# Altium schematic symbol library GenerALI.SchLib: 104 symbols (part 1 of 2)
Pins are listed as number, name and electrical type; pins without a type are passive.

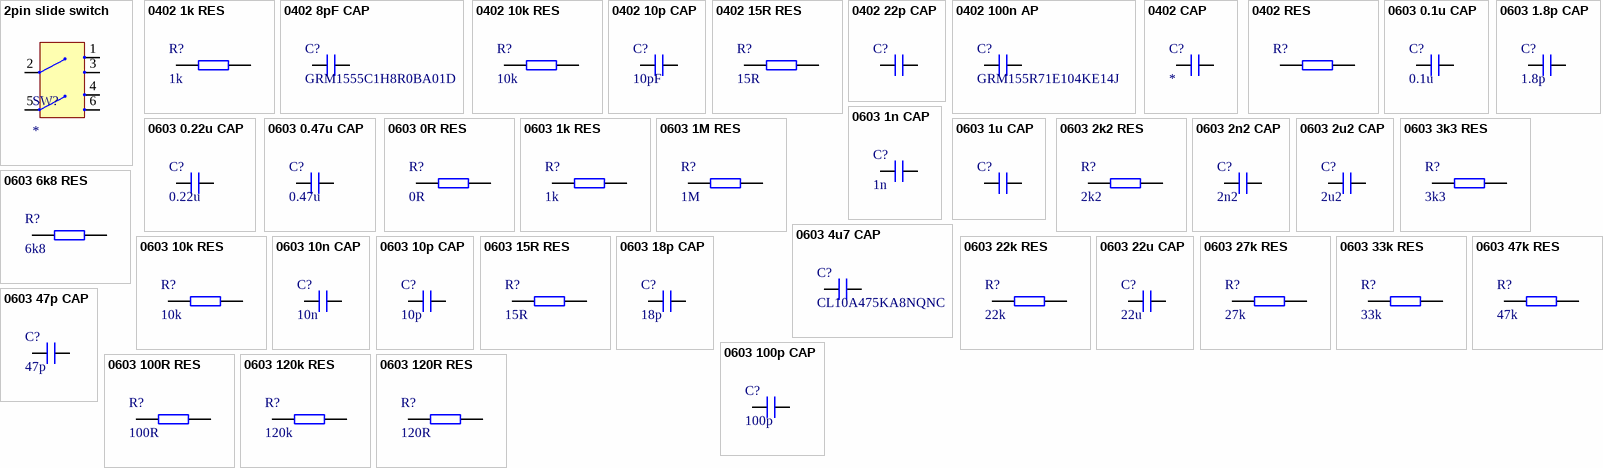
[diagram p0: symbols 2pin slide switch to 0603 120R RES]

## 2pin slide switch
designator SW?
SWITCH SLIDE SPDTX2 100MA 6V; Manufacturer: Nidec Copal; Manufacturer Part Number: CAS-D20TA; Actuator Material: Nylon,Polyamide; Throw Configuration: SPDT,DPDT; Max Voltage Rating (DC): 24V; Electrical Life: 2000Cycles; Switch Function: On-On; Switch Travel: 0.6mm; Operating Force: 510gf; Supplier: Digikey; Supplier Part Number: CASD20JCT-ND; RoHS: Yes; Category: DIP Switches; Stock: 42269; Pricing: 1=2,42, 10=2,356, 25=2,1428, 100=1,8616, 250=1,68712, 500=1,57076 (USD); Mounting Technology: Surface Mount; Contact Material: Copper Alloy; Contact Plating: Gold; Min Operating Temperature: -40°C; Max Operating Temperature: 85°C; Termination: J-Hook; Packaging: Cut Tape; Voltage Rating (DC): 6V; Series: CAS; Orientation: Vertical; RoHS Compliant: Yes; Lead Free: Contains Lead; ComponentLink1URL: https://datasheet.ciiva.com/2865/cas-2865269.pdf?src-supplier=Digikey; ComponentLink1Description: https://datasheet.ciiva.com/2865/cas-2865269.pdf?src-supplier=Digikey; ComponentLink2URL: https://datasheet.ciiva.com/2865/cas-2865270.pdf?src-supplier=Digikey; ComponentLink2Description: https://datasheet.ciiva.com/2865/cas-2865270.pdf?src-supplier=Digikey; ComponentLink3URL: https://datasheet.ciiva.com/2865/cas-2865268.pdf?src-supplier=Digikey; ComponentLink3Description: https://datasheet.ciiva.com/2865/cas-2865268.pdf?src-supplier=Digikey
footprint CAS-D20TA
pins: 1, 2, 3, 4, 5, 6

## 0402 1k RES
designator R?, comment 1k
Fixed Resistor, Metal Glaze/thick Film, 0.06W, 10000ohm, 50V, 1% +/-Tol, 100ppm/Cel, Surface Mount, 0402; Manufacturer: Samsung; Manufacturer Part Number: RC1005F103CS; Power: 60mW; Value: 10kR; Temperature Coefficient: 100ppm/°C; Package Height: 0.35mm; Package Length: 1mm; Package Width: 0.5mm; Case: 0402; Supplier: Digikey; Supplier Part Number: 1276-3431-1-ND; RoHS: Yes; Category: Chip SMD Resistors; Stock: 45634757; Pricing: 1=0,1, 10=0,024, 50=0,0156, 100=0,0132, 500=0,00922, 1000=0,00803, 5000=0,00598 (USD); Mounting Technology: Surface Mount; Pins: 2; Package Shape: Rectangular; Case/Package: 0402; Terminal Finish: Nickel; Min Operating Temperature: -55°C; Max Operating Temperature: 125°C; Tolerance: 1%; JESD-609 Code: e3; Resistor Type: FIXED RESISTOR; Construction: Chip; Package Style: SMTMeter; Packaging: Tape and Reel; Technology: METAL GLAZE/THICK FILM; Working Voltage: 50V; Reach SVHC Compliant: Yes; RoHS Compliant: Yes; ComponentLink1URL: https://datasheet.ciiva.com:443/pdfs/VipMasterIC/IC/SEMS/SEMS-S-A0001326806/SEMS-S-A0001326806-1.pdf?src-supplier=IHS+Markit; ComponentLink1Description: https://datasheet.ciiva.com:443/pdfs/VipMasterIC/IC/SEMS/SEMS-S-A0001326806/SEMS-S-A0001326806-1.pdf?src-supplier=IHS+Markit; ComponentLink2URL: https://datasheet.ciiva.com/15196/getdatasheetpartid-504789-15196214.pdf?src-supplier=Verical; ComponentLink2Description: https://datasheet.ciiva.com/15196/getdatasheetpartid-504789-15196214.pdf?src-supplier=Verical; ComponentLink3URL: https://datasheet.ciiva.com/16481/rcseries-16481007.pdf?src-supplier=Future+Electronics; ComponentLink3Description: https://datasheet.ciiva.com/16481/rcseries-16481007.pdf?src-supplier=Future+Electronics
footprint 0402 RES
pins: 1, 2

## 0402 8pF CAP
designator C?, comment GRM1555C1H8R0BA01D
Ceramic Capacitor, Multilayer, Ceramic, 50V, 1.25% +Tol, 1.25% -Tol, C0G, 30ppm/Cel TC, 0.000008uF, Surface Mount, 0402; Manufacturer: Murata; Value: 8pF; Multilayer: Yes; Case: 0402; Supplier: Digikey; Supplier Part Number: 490-8230-1-ND; Manufacturer Part Number: GRM1555C1H8R0BA01D; RoHS: Yes; Category: Ceramic Capacitors; Stock: 657293; Pricing: 1=0,1, 10=0,055, 50=0,0316, 100=0,0244, 500=0,01838, 1000=0,01445, 2500=0,01313, 5000=0,01208 (USD); Mounting Technology: Surface Mount; Pins: 2; Dielectric Material: Ceramic; Package Shape: Rectangular; Case/Package: 0402; Terminal Finish: Nickel; Min Operating Temperature: -55°C; Max Operating Temperature: 125°C; JESD-609 Code: e3; Capacitor Type: Ceramic; Tolerance  (fill in as +-): 1.25%; Package Style: SMTMeter; Packaging: Tape and Reel; Tolerance (fill in as +-): 1.25%; Rated DC Voltage (URdc): 50V; Temperature Characteristics Code: C0G; Termination: Wraparound; Length: 1mm; Width: 0.5mm; Height: 0.5mm; Reach SVHC Compliant: Yes; RoHS Compliant: Yes; ComponentLink1URL: https://datasheet.ciiva.com:443/pdfs/VipMasterIC/IC/MURE/MURE-S-A0004362469/MURE-S-A0004363144-1.pdf?src-supplier=IHS+Markit; ComponentLink1Description: https://datasheet.ciiva.com:443/pdfs/VipMasterIC/IC/MURE/MURE-S-A0004362469/MURE-S-A0004363144-1.pdf?src-supplier=IHS+Markit; ComponentLink2URL: https://datasheet.ciiva.com/18184/getdatasheetpartid-319021-18184500.pdf?src-supplier=Verical; ComponentLink2Description: https://datasheet.ciiva.com/18184/getdatasheetpartid-319021-18184500.pdf?src-supplier=Verical; ComponentLink3URL: https://datasheet.ciiva.com/6263/grm1555c1h820ga01-01-6263780.pdf?src-supplier=Digikey; ComponentLink3Description: https://datasheet.ciiva.com/6263/grm1555c1h820ga01-01-6263780.pdf?src-supplier=Digikey; ComponentLink4URL: https://datasheet.ciiva.com/5432/product-5432205.pdf?src-supplier=Mouser; ComponentLink4Description: https://datasheet.ciiva.com/5432/product-5432205.pdf?src-supplier=Mouser; ComponentLink5URL: https://datasheet.ciiva.com/11610/product-11610151.pdf?src-supplier=Avnet; ComponentLink5Description: https://datasheet.ciiva.com/11610/product-11610151.pdf?src-supplier=Avnet; ComponentLink6URL: https://datasheet.ciiva.com/16495/c02e-16495287.pdf?src-supplier=Future+Electronics; ComponentLink6Description: https://datasheet.ciiva.com/16495/c02e-16495287.pdf?src-supplier=Future+Electronics
footprint 0402 CAP
pins: 1, 2

## 0402 10k RES
designator R?, comment 10k
Fixed Resistor, Metal Glaze/thick Film, 0.06W, 10000ohm, 50V, 1% +/-Tol, 100ppm/Cel, Surface Mount, 0402; Manufacturer: Samsung; Manufacturer Part Number: RC1005F103CS; Power: 60mW; Value: 10kR; Temperature Coefficient: 100ppm/°C; Package Height: 0.35mm; Package Length: 1mm; Package Width: 0.5mm; Case: 0402; Supplier: Digikey; Supplier Part Number: 1276-3431-1-ND; RoHS: Yes; Category: Chip SMD Resistors; Stock: 45634757; Pricing: 1=0,1, 10=0,024, 50=0,0156, 100=0,0132, 500=0,00922, 1000=0,00803, 5000=0,00598 (USD); Mounting Technology: Surface Mount; Pins: 2; Package Shape: Rectangular; Case/Package: 0402; Terminal Finish: Nickel; Min Operating Temperature: -55°C; Max Operating Temperature: 125°C; Tolerance: 1%; JESD-609 Code: e3; Resistor Type: FIXED RESISTOR; Construction: Chip; Package Style: SMTMeter; Packaging: Tape and Reel; Technology: METAL GLAZE/THICK FILM; Working Voltage: 50V; Reach SVHC Compliant: Yes; RoHS Compliant: Yes; ComponentLink1URL: https://datasheet.ciiva.com:443/pdfs/VipMasterIC/IC/SEMS/SEMS-S-A0001326806/SEMS-S-A0001326806-1.pdf?src-supplier=IHS+Markit; ComponentLink1Description: https://datasheet.ciiva.com:443/pdfs/VipMasterIC/IC/SEMS/SEMS-S-A0001326806/SEMS-S-A0001326806-1.pdf?src-supplier=IHS+Markit; ComponentLink2URL: https://datasheet.ciiva.com/15196/getdatasheetpartid-504789-15196214.pdf?src-supplier=Verical; ComponentLink2Description: https://datasheet.ciiva.com/15196/getdatasheetpartid-504789-15196214.pdf?src-supplier=Verical; ComponentLink3URL: https://datasheet.ciiva.com/16481/rcseries-16481007.pdf?src-supplier=Future+Electronics; ComponentLink3Description: https://datasheet.ciiva.com/16481/rcseries-16481007.pdf?src-supplier=Future+Electronics
footprint 0402 RES
pins: 1, 2

## 0402 10p CAP
designator C?, comment 10pF
Ceramic Capacitor, Multilayer, Ceramic, 25V, 2% +Tol, 2% -Tol, C0G, 30ppm/Cel TC, 0.00001uF, Surface Mount, 01005; Manufacturer: Murata; Manufacturer Part Number: GRM0225C1E100GA03L; Multilayer: Yes; Case: 0402; Supplier: Digikey; Supplier Part Number: 490-13464-2-ND; RoHS: Yes; Category: Ceramic Capacitors; Stock: 400000; Pricing: 40000=0,00724, 80000=0,00648, 120000=0,00524, 200000=0,00507, 280000=0,00476 (USD); Mounting Technology: Surface Mount; Pins: 2; Dielectric Material: Ceramic; Package Shape: Rectangular; Min Operating Temperature: -55°C; Max Operating Temperature: 125°C; Value: 10pF; Capacitor Type: Ceramic; Tolerance  (fill in as +-): 2%; Packaging: Tape and Reel; Tolerance (fill in as +-): 2%; Rated DC Voltage (URdc): 25V; Temperature Characteristics Code: C0G; Termination: Wraparound; Reach SVHC Compliant: Yes; RoHS Compliant: Yes; ComponentLink1URL: https://datasheet.ciiva.com:443/pdfs/VipMasterIC/IC/MURE/MURE-S-A0004430058/MURE-S-A0004435504-1.pdf?src-supplier=IHS+Markit; ComponentLink1Description: https://datasheet.ciiva.com:443/pdfs/VipMasterIC/IC/MURE/MURE-S-A0004430058/MURE-S-A0004435504-1.pdf?src-supplier=IHS+Markit; ComponentLink2URL: https://search.murata.co.jp/Ceramy/image/img/A01X/G101/ENG/GRM0225C1E100GA03-01.pdf?src-supplier=Digikey; ComponentLink2Description: https://search.murata.co.jp/Ceramy/image/img/A01X/G101/ENG/GRM0225C1E100GA03-01.pdf?src-supplier=Digikey; ComponentLink3URL: http://search.murata.co.jp/Ceramy/image/img/A01X/G101/ENG/GRM0225C1E100GA03-01.pdf?src-supplier=Digikey; ComponentLink3Description: http://search.murata.co.jp/Ceramy/image/img/A01X/G101/ENG/GRM0225C1E100GA03-01.pdf?src-supplier=Digikey
footprint 0402 CAP
pins: 1, 2

## 0402 15R RES
designator R?, comment 15R
Fixed Resistor, Metal Glaze/thick Film, 0.0625W, 15ohm, 50V, 1% +/-Tol, 100ppm/Cel, Surface Mount, 0402; Manufacturer: Yageo; Manufacturer Part Number: RC0402FR-0715RL; Additional Feature: LASER TRIMMABLE; Power: 62.5mW; Rated Temperature: 70°C; Temperature Coefficient: 100ppm/°C; Package Height: 0.35mm; Package Length: 1mm; Package Width: 0.5mm; Case: 0402; Supplier: Digikey; Supplier Part Number: 311-15LRCT-ND; RoHS: Yes; Category: Chip SMD Resistors; Stock: 374901; Pricing: 1=0,1, 10=0,015, 50=0,0088, 100=0,0073, 500=0,00488, 1000=0,00417, 5000=0,00297 (USD); Mounting Technology: Surface Mount; Pins: 2; Package Shape: Rectangular; Case/Package: 0402; Terminal Finish: Nickel; Min Operating Temperature: -55°C; Max Operating Temperature: 155°C; Tolerance: 1%; JESD-609 Code: e3; Resistor Type: FIXED RESISTOR; Construction: Chip; Package Style: SMTMeter; Packaging: Tape and Reel; Value: 15R; Technology: METAL GLAZE/THICK FILM; Termination: Wraparound; Working Voltage: 50V; Reach SVHC Compliant: Yes; RoHS Compliant: Yes; ComponentLink1URL: https://datasheet.ciiva.com:443/pdfs/VipMasterIC/IC/YAGO/YAGO-S-A0008145938/YAGO-S-A0008145938-1.pdf?src-supplier=IHS+Markit; ComponentLink1Description: https://datasheet.ciiva.com:443/pdfs/VipMasterIC/IC/YAGO/YAGO-S-A0008145938/YAGO-S-A0008145938-1.pdf?src-supplier=IHS+Markit; ComponentLink2URL: https://datasheet.ciiva.com/2518/pyu-r-int-thick-7-2518950.pdf?src-supplier=Digikey; ComponentLink2Description: https://datasheet.ciiva.com/2518/pyu-r-int-thick-7-2518950.pdf?src-supplier=Digikey; ComponentLink3URL: https://datasheet.ciiva.com/2518/pyu-r-int-thick-7-2518951.pdf?src-supplier=Digikey; ComponentLink3Description: https://datasheet.ciiva.com/2518/pyu-r-int-thick-7-2518951.pdf?src-supplier=Digikey; ComponentLink4URL: https://datasheet.ciiva.com/2518/pyu-r-int-thick-7-2518949.pdf?src-supplier=Digikey; ComponentLink4Description: https://datasheet.ciiva.com/2518/pyu-r-int-thick-7-2518949.pdf?src-supplier=Digikey; ComponentLink5URL: https://datasheet.ciiva.com/12558/pyu-rc0402-51-rohs-l-6-r-8721-12558367.pdf?src-supplier=Mouser; ComponentLink5Description: https://datasheet.ciiva.com/12558/pyu-rc0402-51-rohs-l-6-r-8721-12558367.pdf?src-supplier=Mouser; ComponentLink6URL: https://datasheet.ciiva.com/16740/pyu-rc0402-51-rohs-l-6-r-16740598.pdf?src-supplier=Future+Electronics; ComponentLink6Description: https://datasheet.ciiva.com/16740/pyu-rc0402-51-rohs-l-6-r-16740598.pdf?src-supplier=Future+Electronics
footprint 0402 RES
pins: 1, 2

## 0402 22p CAP
designator C?, comment GRM1555C1H220JA01D  (value not drawn)
Ceramic Capacitor, Multilayer, Ceramic, 50V, 5% +Tol, 5% -Tol, C0G, 30ppm/Cel TC, 0.000022uF, Surface Mount, 0402; Manufacturer: Murata; Value: 22pF; Multilayer: Yes; Case: 0402; Supplier: Digikey; Supplier Part Number: 490-5868-1-ND; Manufacturer Part Number: GRM1555C1H220JA01D; RoHS: Yes; Category: Ceramic Capacitors; Stock: 1670141; Pricing: 1=0,1, 10=0,029, 50=0,0166, 100=0,0129, 500=0,00974, 1000=0,00765, 2500=0,00695, 5000=0,0064 (USD); Mounting Technology: Surface Mount; Pins: 2; Package Shape: Rectangular; Case/Package: 0402; Terminal Finish: Nickel; Dielectric Material: Ceramic; Min Operating Temperature: -55°C; Max Operating Temperature: 125°C; JESD-609 Code: e3; Package Style: SMTMeter; Packaging: Tape and Reel; Termination: Wraparound; Capacitor Type: Ceramic; Tolerance  (fill in as +-): 5%; Tolerance (fill in as +-): 5%; Rated DC Voltage (URdc): 50V; Temperature Characteristics Code: C0G; Length: 1mm; Width: 0.5mm; Height: 0.5mm; Reach SVHC Compliant: Yes; RoHS Compliant: Yes; ComponentLink1URL: https://datasheet.ciiva.com:443/pdfs/VipMasterIC/IC/MURE/MURE-S-A0008911154/MURE-S-A0008911207-1.pdf?src-supplier=IHS+Markit; ComponentLink1Description: https://datasheet.ciiva.com:443/pdfs/VipMasterIC/IC/MURE/MURE-S-A0008911154/MURE-S-A0008911207-1.pdf?src-supplier=IHS+Markit; ComponentLink2URL: https://datasheet.ciiva.com/6277/product-6277809.pdf?src-supplier=Digikey; ComponentLink2Description: https://datasheet.ciiva.com/6277/product-6277809.pdf?src-supplier=Digikey; ComponentLink3URL: https://datasheet.ciiva.com/29200/453714-da-01-en-vs-kondensator-0402-29200051.pdf?src-supplier=Conrad; ComponentLink3Description: https://datasheet.ciiva.com/29200/453714-da-01-en-vs-kondensator-0402-29200051.pdf?src-supplier=Conrad; ComponentLink4URL: https://datasheet.ciiva.com/7828/1666664-7828846.pdf?src-supplier=Element14; ComponentLink4Description: https://datasheet.ciiva.com/7828/1666664-7828846.pdf?src-supplier=Element14
footprint 0402 CAP
pins: 1, 2

## 0402 100n AP
designator C?, comment GRM155R71E104KE14J
Ceramic Capacitor, Multilayer, Ceramic, 25V, 10% +Tol, 10% -Tol, X7R, 15% TC, 0.1uF, Surface Mount, 0402; Manufacturer: Murata; Value: 100nF; Multilayer: Yes; Case: 0402; Supplier: Digikey; Supplier Part Number: 490-14603-1-ND; Manufacturer Part Number: GRM155R71E104KE14J; RoHS: Yes; Category: Ceramic Capacitors; Stock: 3911559; Pricing: 1=0,1, 10=0,024, 50=0,0136, 100=0,0105, 500=0,00794, 1000=0,00623, 2500=0,00566, 5000=0,00521 (USD); Mounting Technology: Surface Mount; Pins: 2; Dielectric Material: Ceramic; Package Shape: Rectangular; Case/Package: 0402; Terminal Finish: Nickel; Min Operating Temperature: -55°C; Max Operating Temperature: 125°C; JESD-609 Code: e3; Capacitor Type: Ceramic; Tolerance  (fill in as +-): 10%; Package Style: SMTMeter; Packaging: Tape and Reel; Tolerance (fill in as +-): 10%; Rated DC Voltage (URdc): 25V; Temperature Characteristics Code: X7R; Termination: Wraparound; Length: 1mm; Width: 0.5mm; Height: 0.5mm; Reach SVHC Compliant: Yes; RoHS Compliant: Yes; ComponentLink1URL: https://datasheet.ciiva.com:443/pdfs/VipMasterIC/IC/MURE/MURE-S-A0004362469/MURE-S-A0004364872-1.pdf?src-supplier=IHS+Markit; ComponentLink1Description: https://datasheet.ciiva.com:443/pdfs/VipMasterIC/IC/MURE/MURE-S-A0004362469/MURE-S-A0004364872-1.pdf?src-supplier=IHS+Markit; ComponentLink2URL: http://www.mouser.com/ds/2/281/c02e-2905.pdf?src-supplier=Mouser; ComponentLink2Description: http://www.mouser.com/ds/2/281/c02e-2905.pdf?src-supplier=Mouser; ComponentLink3URL: https://datasheet.octopart.com/GRM155R71E104KE14J-Murata-datasheet-155345056.pdf?src-supplier=Element14; ComponentLink3Description: https://datasheet.octopart.com/GRM155R71E104KE14J-Murata-datasheet-155345056.pdf?src-supplier=Element14; ComponentLink4URL: http://search.murata.co.jp/Ceramy/image/img/A01X/G101/ENG/GRM155R71E104KE14-01.pdf?src-supplier=Digikey; ComponentLink4Description: http://search.murata.co.jp/Ceramy/image/img/A01X/G101/ENG/GRM155R71E104KE14-01.pdf?src-supplier=Digikey; ComponentLink5URL: https://datasheet.octopart.com/GRM155R71E104KE14J-Murata-datasheet-165579666.pdf?src-supplier=TME; ComponentLink5Description: https://datasheet.octopart.com/GRM155R71E104KE14J-Murata-datasheet-165579666.pdf?src-supplier=TME
footprint 0402 CAP
pins: 1, 2

## 0402 CAP
designator C?
Case: 0402
footprint 0402 CAP
pins: 1, 2

## 0402 RES
designator R?
Case: 0402
footprint 0402 RES
pins: 1, 2

## 0603 0.1u CAP
designator C?, comment 0.1u
Case: 0603
footprint 0603 CAP
pins: 1, 2

## 0603 0.22u CAP
designator C?, comment 0.22u
Case: 0603
footprint 0603 CAP
pins: 1, 2

## 0603 0.47u CAP
designator C?, comment 0.47u
Case: 0603
footprint 0603 CAP
pins: 1, 2

## 0603 0R RES
designator R?, comment 0R
Case: 0603
footprint 0603 RES
pins: 1, 2

## 0603 1.8p CAP
designator C?, comment 1.8p
Case: 0603
footprint 0603 CAP
pins: 1, 2

## 0603 1k RES
designator R?, comment 1k
Case: 0603
footprint 0603 RES
pins: 1, 2

## 0603 1M RES
designator R?, comment 1M
Case: 0603
footprint 0603 RES
pins: 1, 2

## 0603 1n CAP
designator C?, comment 1n
Case: 0603
footprint 0603 CAP
pins: 1, 2

## 0603 1u CAP
designator C?, comment GCM188R71E105KA64D  (value not drawn)
Ceramic Capacitor, Multilayer, Ceramic, 25V, 10% +Tol, 10% -Tol, X7R, 15% TC, 1uF, Surface Mount, 0603; Manufacturer: Murata; Multilayer: Yes; Reference Standard: AEC-Q200; Case: 0603; Supplier: Digikey; Supplier Part Number: 490-10673-6-ND; Manufacturer Part Number: GCM188R71E105KA64D; RoHS: Yes; Category: Ceramic Capacitors; Stock: 2612025; Pricing: 1=0,24, 10=0,158, 50=0,1, 100=0,08, 500=0,05776, 1000=0,0511 (USD); Mounting Technology: Surface Mount; Pins: 2; Dielectric Material: Ceramic; Package Shape: Rectangular; Case/Package: 0603; Terminal Finish: Nickel; Min Operating Temperature: -55°C; Max Operating Temperature: 125°C; JESD-609 Code: e3; Value: 1uF; Capacitor Type: Ceramic; Tolerance  (fill in as +-): 10%; Package Style: SMTMeter; Packaging: Tape and Reel; Tolerance (fill in as +-): 10%; Rated DC Voltage (URdc): 25V; Temperature Characteristics Code: X7R; Termination: Wraparound; Length: 1.6mm; Width: 0.8mm; Height: 0.9mm; Reach SVHC Compliant: Yes; RoHS Compliant: Yes; ComponentLink1URL: https://datasheet.ciiva.com:443/pdfs/VipMasterIC/IC/MURE/MURE-S-A0004362469/MURE-S-A0004362812-1.pdf?src-supplier=IHS+Markit; ComponentLink1Description: https://datasheet.ciiva.com:443/pdfs/VipMasterIC/IC/MURE/MURE-S-A0004362469/MURE-S-A0004362812-1.pdf?src-supplier=IHS+Markit; ComponentLink2URL: https://datasheet.ciiva.com/11616/product-11616499.pdf?src-supplier=Avnet; ComponentLink2Description: https://datasheet.ciiva.com/11616/product-11616499.pdf?src-supplier=Avnet; ComponentLink3URL: https://datasheet.ciiva.com/26843/getdatasheetpartid-562446-26843671.pdf?src-supplier=Verical; ComponentLink3Description: https://datasheet.ciiva.com/26843/getdatasheetpartid-562446-26843671.pdf?src-supplier=Verical
footprint 0603 CAP
pins: 1, 2

## 0603 2k2 RES
designator R?, comment 2k2
Case: 0603
footprint 0603 RES
pins: 1, 2

## 0603 2n2 CAP
designator C?, comment 2n2
Case: 0603
footprint 0603 CAP
pins: 1, 2

## 0603 2u2 CAP
designator C?, comment 2u2
Case: 0603
footprint 0603 CAP
pins: 1, 2

## 0603 3k3 RES
designator R?, comment 3k3
Case: 0603
footprint 0603 RES
pins: 1, 2

## 0603 4u7 CAP
designator C?, comment CL10A475KA8NQNC
Ceramic Capacitor, Multilayer, Ceramic, 25V, 10% +Tol, 10% -Tol, X5R, 15% TC, 4.7uF, Surface Mount, 0603; Manufacturer: Samsung; Multilayer: Yes; Case: 0603; Supplier: Digikey; Supplier Part Number: 1276-1900-1-ND; Manufacturer Part Number: CL10A475KA8NQNC; RoHS: Yes; Category: Ceramic Capacitors; Stock: 1806164; Pricing: 1=0,35, 10=0,226, 50=0,1584, 100=0,1279, 500=0,09502, 1000=0,08314 (USD); Mounting Technology: Surface Mount; Pins: 2; Package Shape: Rectangular; Terminal Finish: Nickel; Dielectric Material: Ceramic; Case/Package: 0603; Min Operating Temperature: -55°C; Max Operating Temperature: 85°C; JESD-609 Code: e3; Package Style: SMTMeter; Value: 4.7uF; Capacitor Type: Ceramic; Tolerance  (fill in as +-): 10%; Packaging: Tape and Reel; Tolerance (fill in as +-): 10%; Rated DC Voltage (URdc): 25V; Temperature Characteristics Code: X5R; Termination: Wraparound; Length: 1.6mm; Width: 0.8mm; Height: 0.95mm; Reach SVHC Compliant: Yes; RoHS Compliant: Yes; ComponentLink1URL: https://datasheet.ciiva.com:443/pdfs/VipMasterIC/IC/SEMS/SEMS-S-A0008384515/SEMS-S-A0008873295-1.pdf?src-supplier=IHS+Markit; ComponentLink1Description: https://datasheet.ciiva.com:443/pdfs/VipMasterIC/IC/SEMS/SEMS-S-A0008384515/SEMS-S-A0008873295-1.pdf?src-supplier=IHS+Markit; ComponentLink2URL: https://datasheet.ciiva.com/25787/cl10a475ka8nqnc-25787017.pdf?src-supplier=Digikey; ComponentLink2Description: https://datasheet.ciiva.com/25787/cl10a475ka8nqnc-25787017.pdf?src-supplier=Digikey
footprint 0603 CAP
pins: 1, 2

## 0603 6k8 RES
designator R?, comment 6k8
Case: 0603
footprint 0603 RES
pins: 1, 2

## 0603 10k RES
designator R?, comment 10k
Case: 0603
footprint 0603 RES
pins: 1, 2

## 0603 10n CAP
designator C?, comment 10n
Case: 0603
footprint 0603 CAP
pins: 1, 2

## 0603 10p CAP
designator C?, comment 10p
Case: 0603
footprint 0603 CAP
pins: 1, 2

## 0603 15R RES
designator R?, comment 15R
Case: 0603
footprint 0603 RES
pins: 1, 2

## 0603 18p CAP
designator C?, comment 18p
Case: 0603
footprint 0603 CAP
pins: 1, 2

## 0603 22k RES
designator R?, comment 22k
Case: 0603
footprint 0603 RES
pins: 1, 2

## 0603 22u CAP
designator C?, comment 22u
Case: 0603
footprint 0603 CAP
pins: 1, 2

## 0603 27k RES
designator R?, comment 27k
Case: 0603
footprint 0603 RES
pins: 1, 2

## 0603 33k RES
designator R?, comment 33k
Case: 0603
footprint 0603 RES
pins: 1, 2

## 0603 47k RES
designator R?, comment 47k
Case: 0603
footprint 0603 RES
pins: 1, 2

## 0603 47p CAP
designator C?, comment 47p
Case: 0603
footprint 0603 CAP
pins: 1, 2

## 0603 100p CAP
designator C?, comment 100p
Case: 0603
footprint 0603 CAP
pins: 1, 2

## 0603 100R RES
designator R?, comment 100R
Case: 0603
footprint 0603 RES
pins: 1, 2

## 0603 120k RES
designator R?, comment 120k
Case: 0603
footprint 0603 RES
pins: 1, 2

## 0603 120R RES
designator R?, comment 120R
Case: 0603
footprint 0603 RES
pins: 1, 2

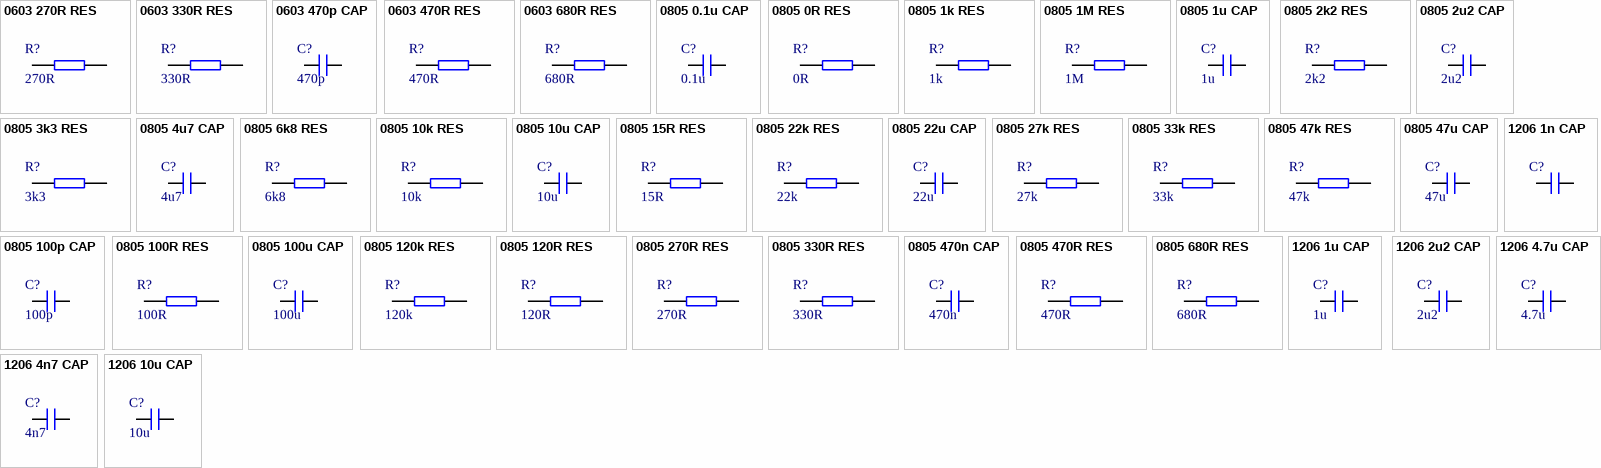
[diagram p1: symbols 0603 270R RES to 1206 10u CAP]

## 0603 270R RES
designator R?, comment 270R
Case: 0603
footprint 0603 RES
pins: 1, 2

## 0603 330R RES
designator R?, comment 330R
Case: 0603
footprint 0603 RES
pins: 1, 2

## 0603 470p CAP
designator C?, comment 470p
Case: 0603
footprint 0603 CAP
pins: 1, 2

## 0603 470R RES
designator R?, comment 470R
Case: 0603
footprint 0603 RES
pins: 1, 2

## 0603 680R RES
designator R?, comment 680R
Case: 0603
footprint 0603 RES
pins: 1, 2

## 0805 0.1u CAP
designator C?, comment 0.1u
Case: 0805
footprint 0805 CAP
pins: 1, 2

## 0805 0R RES
designator R?, comment 0R
Case: 0805
footprint 0805 RES
pins: 1, 2

## 0805 1k RES
designator R?, comment 1k
Case: 0805
footprint 0805 RES
pins: 1, 2

## 0805 1M RES
designator R?, comment 1M
Case: 0805
footprint 0805 RES
pins: 1, 2

## 0805 1u CAP
designator C?, comment 1u
Case: 0805
footprint 0805 CAP
pins: 1, 2

## 0805 2k2 RES
designator R?, comment 2k2
Case: 0805
footprint 0805 RES
pins: 1, 2

## 0805 2u2 CAP
designator C?, comment 2u2
Case: 0805
footprint 0805 CAP
pins: 1, 2

## 0805 3k3 RES
designator R?, comment 3k3
Case: 0805
footprint 0805 RES
pins: 1, 2

## 0805 4u7 CAP
designator C?, comment 4u7
Case: 0805
footprint 0805 CAP
pins: 1, 2

## 0805 6k8 RES
designator R?, comment 6k8
Case: 0805
footprint 0805 RES
pins: 1, 2

## 0805 10k RES
designator R?, comment 10k
Case: 0805
footprint 0805 RES
pins: 1, 2

## 0805 10u CAP
designator C?, comment 10u
Case: 0805
footprint 0805 CAP
pins: 1, 2

## 0805 15R RES
designator R?, comment 15R
Case: 0805
footprint 0805 RES
pins: 1, 2

## 0805 22k RES
designator R?, comment 22k
Case: 0805
footprint 0805 RES
pins: 1, 2

## 0805 22u CAP
designator C?, comment 22u
Case: 0805
footprint 0805 CAP
pins: 1, 2

## 0805 27k RES
designator R?, comment 27k
Case: 0805
footprint 0805 RES
pins: 1, 2

## 0805 33k RES
designator R?, comment 33k
Case: 0805
footprint 0805 RES
pins: 1, 2

## 0805 47k RES
designator R?, comment 47k
Case: 0805
footprint 0805 RES
pins: 1, 2

## 0805 47u CAP
designator C?, comment 47u
Case: 0805
footprint 0805 CAP
pins: 1, 2

## 0805 100p CAP
designator C?, comment 100p
Case: 0805
footprint 0805 CAP
pins: 1, 2

## 0805 100R RES
designator R?, comment 100R
Case: 0805
footprint 0805 RES
pins: 1, 2

## 0805 100u CAP
designator C?, comment 100u
Case: 0805
footprint 0805 CAP
pins: 1, 2

## 0805 120k RES
designator R?, comment 120k
Case: 0805
footprint 0805 RES
pins: 1, 2

## 0805 120R RES
designator R?, comment 120R
Case: 0805
footprint 0805 RES
pins: 1, 2

## 0805 270R RES
designator R?, comment 270R
Case: 0805
footprint 0805 RES
pins: 1, 2

## 0805 330R RES
designator R?, comment 330R
Case: 0805
footprint 0805 RES
pins: 1, 2

## 0805 470n CAP
designator C?, comment 470n
Case: 0805
footprint 0805 CAP
pins: 1, 2

## 0805 470R RES
designator R?, comment 470R
Case: 0805
footprint 0805 RES
pins: 1, 2

## 0805 680R RES
designator R?, comment 680R
Case: 0805
footprint 0805 RES
pins: 1, 2

## 1206 1n CAP
designator C?
Case: 1206
footprint 1206 CAP
pins: 1, 2

## 1206 1u CAP
designator C?, comment 1u
Case: 1206
footprint 1206 CAP
pins: 1, 2

## 1206 2u2 CAP
designator C?, comment 2u2
Case: 1206
footprint 1206 CAP
pins: 1, 2

## 1206 4.7u CAP
designator C?, comment 4.7u
Case: 1206
footprint 1206 CAP
pins: 1, 2

## 1206 4n7 CAP
designator C?, comment 4n7
Case: 1206
footprint 1206 CAP
pins: 1, 2

## 1206 10u CAP
designator C?, comment 10u
Case: 1206
footprint 1206 CAP
pins: 1, 2

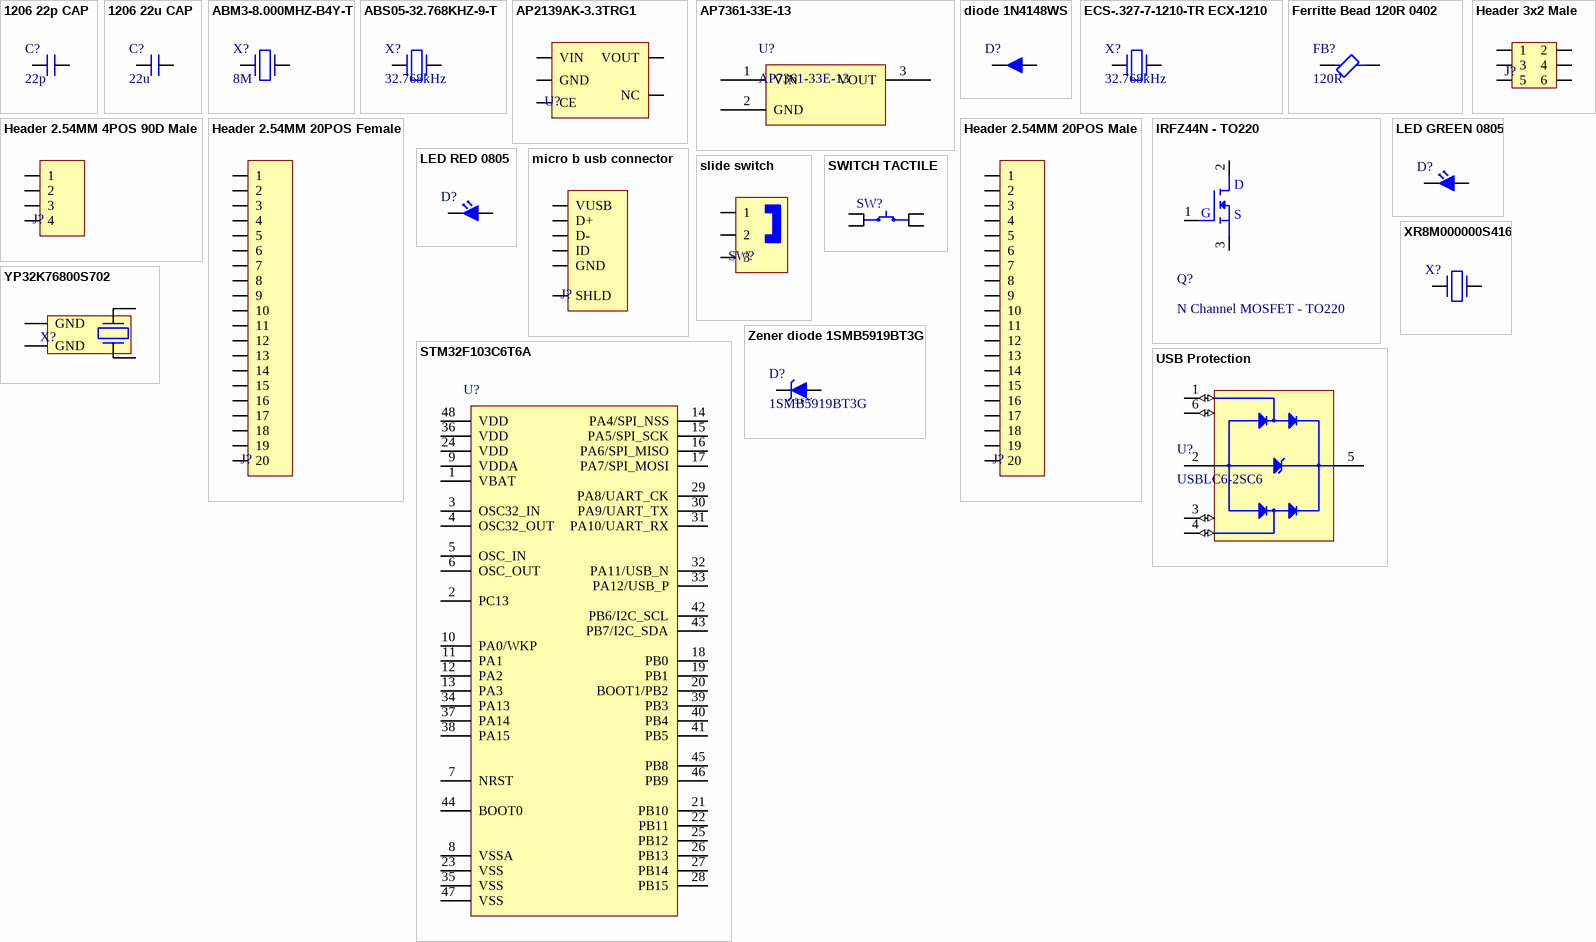
[diagram p2: symbols 1206 22p CAP to Zener diode 1SMB5919BT3G]

## 1206 22p CAP
designator C?, comment 22p
Case: 1206
footprint 1206 CAP
pins: 1, 2

## 1206 22u CAP
designator C?, comment 22u
Case: 1206
footprint 1206 CAP
pins: 1, 2

## ABM3-8.000MHZ-B4Y-T
designator X?, comment 8M
Parallel - Fundamental Quartz Crystal, 8MHz Nom 18pF; Manufacturer: Abracon; Manufacturer Part Number: ABM3-8.000MHZ-B4Y-T; Manufacturer Series: ABM3; Aging: 5 PPM/FIRST YEAR; Drive Level: 10uW; Frequency Stability: 0.003%; Frequency Tolerance: 30ppm; Operating Frequency-Nom: 80; ESR: 140R; Supplier: Digikey; Supplier Part Number: 535-13567-1-ND; RoHS: Yes; Category: Crystals; Stock: 1076661; Pricing: 1=0,59, 10=0,495, 50=0,4456, 100=0,3962, 500=0,37636 (USD); Mounting Technology: Surface Mount; Terminal Finish: Silver; Min Operating Temperature: -20°C; Max Operating Temperature: 70°C; JESD-609 Code: e4; Crystal/Resonator Type: PARALLEL - FUNDAMENTAL; Load Capacitance: 18pF; Reach SVHC Compliant: Yes; RoHS Compliant: Yes; ComponentLink1URL: https://datasheet.ciiva.com:443/pdfs/VipMasterIC/IC/ABRC/ABRCS03152/ABRCS03152-1.pdf?src-supplier=IHS+Markit; ComponentLink1Description: https://datasheet.ciiva.com:443/pdfs/VipMasterIC/IC/ABRC/ABRCS03152/ABRCS03152-1.pdf?src-supplier=IHS+Markit; ComponentLink2URL: https://abracon.com/Resonators/abm3.pdf?src-supplier=Digikey; ComponentLink2Description: https://abracon.com/Resonators/abm3.pdf?src-supplier=Digikey; ComponentLink3URL: http://www.abracon.com/Resonators/abm3.pdf?src-supplier=Digikey; ComponentLink3Description: http://www.abracon.com/Resonators/abm3.pdf?src-supplier=Digikey; ComponentLink4URL: https://datasheet.octopart.com/ABM3-8.000MHZ-B4Y-T-Abracon-datasheet-154724144.pdf?src-supplier=Sager+Electronics; ComponentLink4Description: https://datasheet.octopart.com/ABM3-8.000MHZ-B4Y-T-Abracon-datasheet-154724144.pdf?src-supplier=Sager+Electronics
footprint ABM3-8.000MHZ (2-SMD, No Lead for crystals)
pins: 1, 2

## ABS05-32.768KHZ-9-T
designator X?, comment 32.768kHz
Parallel - Fundamental Quartz Crystal, 0.032768MHz Nom; Manufacturer: Abracon; Manufacturer Part Number: ABS05-32.768KHZ-9-T; Manufacturer Series: ABS05; Additional Feature: TAPE AND REEL; Drive Level: 0.5uW; Frequency Stability: 0.0072%; Frequency Tolerance: 20ppm; Load Capacitance: 9pF; ESR: 90kR; Supplier: Digikey; Supplier Part Number: 535-ABS05-32.768KHZ-9-TCT-ND; RoHS: Yes; Category: Crystals; Stock: 674990; Pricing: 1=0,83, 10=0,733, 50=0,685, 100=0,6054, 500=0,57356, 1000=0,47797 (USD); Mounting Technology: Surface Mount; Min Operating Temperature: -40°C; Max Operating Temperature: 85°C; Crystal/Resonator Type: PARALLEL - FUNDAMENTAL; Operating Frequency-Nom: 0.032768; Reach SVHC Compliant: Yes; RoHS Compliant: Yes; ComponentLink1URL: https://datasheet.ciiva.com:443/pdfs/VipMasterIC/IC/ABRC/ABRC-S-A0001211237/ABRC-S-A0001211237-1.pdf?src-supplier=IHS+Markit; ComponentLink1Description: https://datasheet.ciiva.com:443/pdfs/VipMasterIC/IC/ABRC/ABRC-S-A0001211237/ABRC-S-A0001211237-1.pdf?src-supplier=IHS+Markit; ComponentLink2URL: https://datasheet.ciiva.com/12387/abs05-25797-12387306.pdf?src-supplier=Mouser; ComponentLink2Description: https://datasheet.ciiva.com/12387/abs05-25797-12387306.pdf?src-supplier=Mouser; ComponentLink3URL: https://datasheet.ciiva.com/6728/abs05-6728952.pdf?src-supplier=Digikey; ComponentLink3Description: https://datasheet.ciiva.com/6728/abs05-6728952.pdf?src-supplier=Digikey; ComponentLink4URL: https://datasheet.ciiva.com/6728/abs05-6728951.pdf?src-supplier=Digikey; ComponentLink4Description: https://datasheet.ciiva.com/6728/abs05-6728951.pdf?src-supplier=Digikey; ComponentLink5URL: https://datasheet.ciiva.com/48668/abs05-48668569.pdf?src-supplier=Avnet; ComponentLink5Description: https://datasheet.ciiva.com/48668/abs05-48668569.pdf?src-supplier=Avnet; ComponentLink6URL: https://datasheet.ciiva.com/6728/abs05-6728953.pdf?src-supplier=Digikey; ComponentLink6Description: https://datasheet.ciiva.com/6728/abs05-6728953.pdf?src-supplier=Digikey; ComponentLink7URL: https://datasheet.ciiva.com/16411/abs05-16411147.pdf?src-supplier=Future+Electronics; ComponentLink7Description: https://datasheet.ciiva.com/16411/abs05-16411147.pdf?src-supplier=Future+Electronics
footprint ABS05
pins: 1, 2

## AP2139AK-3.3TRG1
designator U?
Fixed Positive LDO Regulator, 3.3V, 0.3V Dropout, CMOS, PDSO5; Manufacturer: Diodes; Manufacturer Part Number: AP2139AK-3.3TRG1; Package Body Material: Plastic; Dropout Voltage1-Max: 300mV; Max Supply Voltage: 6.6V; Min Input Voltage: 2.5V; Channels: 1; Output Current1-Max: 100mA; Output Voltage1-Max: 3.366V; Output Voltage1-Min: 3.234V; Regulator Type: FIXED POSITIVE SINGLE OUTPUT LDO REGULATOR; Supplier: Digikey; Supplier Part Number: AP2139AK-3.3TRG1DICT-ND; RoHS: Yes; Category: Voltage Regulators - Linear; Stock: 268160; Pricing: 1=0,4, 10=0,323, 25=0,2956, 100=0,2201, 250=0,19948, 500=0,16508, 1000=0,12381 (USD); Case/Package: LSSOP; Pins: 5; Package Shape: Rectangular; Terminal Finish: Tin; JESD-609 Code: e3; JESD-30 Code: R-PDSO-G5; Moisture Sensitivity Level: 3; Operating Temperature, TJ-Max: 85°C; Operating Temperature, TJ-Min: -40°C; Output Voltage1-Nom: 3.3V; Package Style: SMALL OUTLINE, LOW PROFILE, SHRINK PITCHMeter; Surface Mount: Yes; Technology: CMOS; Terminal Form: Gull Wing; Terminal Position: DUAL; Length: 2.92mm; Width: 1.6mm; Height - Seated (Max): 1.45mm; Terminal Pitch: 0.95mm; Reach SVHC Compliant: Yes; RoHS Compliant: Yes; ComponentLink1URL: https://datasheet.ciiva.com:443/pdfs/VipMasterIC/IC/DIOD/DIOD-S-A0008668704/DIOD-S-A0008668704-1.pdf?src-supplier=IHS+Markit; ComponentLink1Description: https://datasheet.ciiva.com:443/pdfs/VipMasterIC/IC/DIOD/DIOD-S-A0008668704/DIOD-S-A0008668704-1.pdf?src-supplier=IHS+Markit; ComponentLink2URL: https://datasheet.ciiva.com/29569/ap2138-9-29569029.pdf?src-supplier=Digikey; ComponentLink2Description: https://datasheet.ciiva.com/29569/ap2138-9-29569029.pdf?src-supplier=Digikey; ComponentLink3URL: https://datasheet.ciiva.com/29569/ap2138-9-29569030.pdf?src-supplier=Digikey; ComponentLink3Description: https://datasheet.ciiva.com/29569/ap2138-9-29569030.pdf?src-supplier=Digikey; ComponentLink4URL: https://datasheet.ciiva.com/30016/ap2138-9-30016781.pdf?src-supplier=Avnet; ComponentLink4Description: https://datasheet.ciiva.com/30016/ap2138-9-30016781.pdf?src-supplier=Avnet
footprint SOT-23-5
pins: 1 VIN, 2 GND, 3 CE, 4 NC, 5 VOUT

## AP7361-33E-13
designator U?
AP7361 Series 3.3 V 1 A Low SMT Dropout Fixed-Mode Regulator - SOT-223; Manufacturer: Diodes; Number of Outputs: 1; Min Input Voltage: 2.2V; Max Supply Voltage: 6V; Max Output current: 1A; Output Voltage: 3.3V; Max Power Dissipation: 1.1W; Dropout Voltage: 500mV; Min Current Limit: 1.1A; Polarity: Positive; Quiescent Current: 70uA; Power Dissipation: 1.1kW; Accuracy: 1%; Power Supply Rejection Ratio (PSRR): 65dB; Reference Voltage: 800mV; Output Type: Fixed; Designed by: Mert Ali Şentürk; Supplier: Digi-Key; Supplier Part Number: AP7361-33E-13DICT-ND; Manufacturer Part Number: AP7361-33E-13; RoHS: Yes; Category: Voltage Regulators - Linear; Stock: 131463; Pricing: 1=0,51, 10=0,414, 25=0,3788, 100=0,2818, 250=0,2554, 500=0,21138, 1000=0,15853 (USD); Mounting Technology: Surface Mount; Case/Package: SOT-223; Pins: 4; Weight: 0.000282oz; Contact Plating: Tin,Matte; Min Operating Temperature: -40°C; Max Operating Temperature: 85°C; Package Quantity: 1; Packaging: Tape and Reel; Output Current: 1A; Number of Regulators: 1; Series: -; Radiation Hardening: No; Reach SVHC Compliant: Yes; Lead Free: Lead Free; RoHS Compliant: Yes; ComponentLink1URL: https://datasheet.ciiva.com/26926/getdatasheetpartid-670786-26926141.pdf?src-supplier=Verical; ComponentLink1Description: https://datasheet.ciiva.com/26926/getdatasheetpartid-670786-26926141.pdf?src-supplier=Verical; ComponentLink2URL: https://datasheet.ciiva.com/29568/ap7361-29568378.pdf?src-supplier=Digi-Key; ComponentLink2Description: https://datasheet.ciiva.com/29568/ap7361-29568378.pdf?src-supplier=Digi-Key; ComponentLink3URL: https://datasheet.ciiva.com/29568/ap7361-29568379.pdf?src-supplier=Digi-Key; ComponentLink3Description: https://datasheet.ciiva.com/29568/ap7361-29568379.pdf?src-supplier=Digi-Key
footprint SOT223
pins: 1 VIN, 2 GND, 3 VOUT

## diode 1N4148WS
designator D?, comment 1N4148WS  (value not drawn)
Rectifier Diode, 1 Phase, 1 Element, 0.15A, 100V V(RRM), Silicon; Manufacturer: ON Semiconductor / Fairchild; Package Body Material: Plastic; Number of Elements: 1; Max Output current: 150mA; Reverse Recovery Time-Max: 0.004us; Forward Voltage: 1V; Qualification Status: Not Qualified; Supplier: Digikey; Supplier Part Number: 1N4148WSFSCT-ND; Manufacturer Part Number: 1N4148WS; RoHS: Yes; Category: Rectifier Diodes; Stock: 939364; Pricing: 1=0,19, 10=0,136, 100=0,0733, 500=0,0576, 1000=0,04 (USD); Pins: 2; Diode Element Material: SILICON; Package Shape: Rectangular; Max Operating Temperature: 150°C; Diode Type: RECTIFIER; JESD-30 Code: R-PDSO-F2; Package Style: SMALL OUTLINEMeter; Rep Pk Reverse Voltage-Max: 100V; Surface Mount: Yes; Terminal Form: Flat; Terminal Position: DUAL; Moisture Sensitivity Level: 1; Reach SVHC Compliant: Yes; RoHS Compliant: Yes; ComponentLink1URL: https://datasheet.ciiva.com:443/pdfs/VipMasterIC/IC/ONSM/ONSM-S-A0003392874/ONSM-S-A0003585195-1.pdf?src-supplier=IHS+Markit; ComponentLink1Description: https://datasheet.ciiva.com:443/pdfs/VipMasterIC/IC/ONSM/ONSM-S-A0003392874/ONSM-S-A0003585195-1.pdf?src-supplier=IHS+Markit; ComponentLink2URL: https://datasheet.ciiva.com/15208/getdatasheetpartid-127819-15208358.pdf?src-supplier=Verical; ComponentLink2Description: https://datasheet.ciiva.com/15208/getdatasheetpartid-127819-15208358.pdf?src-supplier=Verical; ComponentLink3URL: https://datasheet.ciiva.com/8300/1n914bws-8300360.pdf?src-supplier=Avnet; ComponentLink3Description: https://datasheet.ciiva.com/8300/1n914bws-8300360.pdf?src-supplier=Avnet; Case: SOD-323F
footprint SOD-323F
pins: 1, 2

## ECS-.327-7-1210-TR ECX-1210
designator X?, comment 32.768kHz
Parallel - Fundamental Quartz Crystal, 32.768KHz Nom 7pF ECX-1210; Manufacturer: ECS International; Manufacturer Part Number: ECS-.327-7-1210-TR; Aging: 3 PPM/FIRST YEAR; Drive Level: 0.1uW; Frequency Stability: 0.0144%; Frequency Tolerance: 20ppm; Operating Frequency-Nom: 0.032768; ESR: 90kR; Supplier: Digikey; Supplier Part Number: XC2284CT-ND; RoHS: Yes; Category: Crystals and Oscillators; Stock: 129744; Pricing: 1=0,87, 10=0,828, 50=0,8088, 100=0,6932, 500=0,67804 (USD); Mounting Technology: Surface Mount; Min Operating Temperature: -40°C; Max Operating Temperature: 85°C; Crystal/Resonator Type: PARALLEL - FUNDAMENTAL; Load Capacitance: 7pF; Reach SVHC Compliant: Yes; RoHS Compliant: Yes; ComponentLink1URL: https://datasheet.ciiva.com:443/pdfs/VipMasterIC/IC/ECSI/ECSI-S-A0009254912/ECSI-S-A0009254912-1.pdf?src-supplier=IHS+Markit; ComponentLink1Description: https://datasheet.ciiva.com:443/pdfs/VipMasterIC/IC/ECSI/ECSI-S-A0009254912/ECSI-S-A0009254912-1.pdf?src-supplier=IHS+Markit; ComponentLink2URL: https://www.ecsxtal.com/store/pdf/ECX-1210.pdf?src-supplier=Digikey; ComponentLink2Description: https://www.ecsxtal.com/store/pdf/ECX-1210.pdf?src-supplier=Digikey; ComponentLink3URL: https://datasheet.octopart.com/ECS-.327-7-1210-TR-ECS-International-datasheet-127110274.pdf?src-supplier=Future+Electronics; ComponentLink3Description: https://datasheet.octopart.com/ECS-.327-7-1210-TR-ECS-International-datasheet-127110274.pdf?src-supplier=Future+Electronics; ComponentLink4URL: https://datasheet.octopart.com/ECS-.327-7-1210-TR-ECS-International-datasheet-101965301.pdf?src-supplier=Master+Electronics; ComponentLink4Description: https://datasheet.octopart.com/ECS-.327-7-1210-TR-ECS-International-datasheet-101965301.pdf?src-supplier=Master+Electronics
footprint ECX-1210
pins: 1, 2

## Ferritte Bead 120R 0402
designator FB?, comment 120R
Ferrite Chip, 1 Function(s), 0.9A, 2 Pin(s) / BLM15PD121SN1D; Manufacturer: Murata; DC Resistance-Max: 90mR; Clock Frequency: 100MHz; Channels: 1; Current Rating: 900mA; Supplier: Digikey; Supplier Part Number: 490-5203-6-ND; Manufacturer Part Number: BLM15PD121SN1D; RoHS: Yes; Category: Ferrite Beads and Chips; Stock: 709858; Pricing: 1=0,1, 10=0,068, 25=0,0616, 50=0,0556, 100=0,0408, 250=0,02968, 500=0,0272, 1000=0,02348, 5000=0,01854 (USD); Mounting Technology: Surface Mount; Material: Ferrite; Case Code: 0402; Terminal Finish: Nickel; Min Operating Temperature: -55°C; Max Operating Temperature: 125°C; JESD-609 Code: e3; Construction: Chip Bead; Filter Type: FERRITE CHIP; Min Frequency: 100MHz; Output Impedance: 120R; Packaging: Tape and Reel; Length: 1mm; Width: 0.5mm; Height: 0.5mm; Reach SVHC Compliant: Yes; RoHS Compliant: Yes; ComponentLink1URL: https://datasheet.ciiva.com:443/pdfs/VipMasterIC/IC/MURE/MURE-S-A0010009827/MURE-S-A0010009827-1.pdf?src-supplier=IHS+Markit; ComponentLink1Description: https://datasheet.ciiva.com:443/pdfs/VipMasterIC/IC/MURE/MURE-S-A0010009827/MURE-S-A0010009827-1.pdf?src-supplier=IHS+Markit
footprint 0402 RES
pins: 1, 2

## Header 2.54MM 4POS 90D Male
designator J?
Header 2.54MM 4POS 90D Male
footprint 4pin 90degree header 2.54mm
pins: 1, 2, 3, 4

## Header 2.54MM 20POS Female
designator J?
Header 2.54MM 20POS Female
footprint 20pin female header 2.54mm
pins: 1, 2, 3, 4, 5, 6, 7, 8, 9, 10, 11, 12, 13, 14, 15, 16, 17, 18, 19, 20

## Header 2.54MM 20POS Male
designator J?
Header 2.54MM 20POS Male
footprint 20pin Male Header 2.54mm
pins: 1, 2, 3, 4, 5, 6, 7, 8, 9, 10, 11, 12, 13, 14, 15, 16, 17, 18, 19, 20

## Header 3x2 Male
designator J?  (value not drawn)
footprint 3X2 Header Male 2.54mm
pins: 1, 2, 3, 4, 5, 6

## IRFZ44N - TO220
designator Q?, comment N Channel MOSFET - TO220
60V, 50A, 150W; ID: 48A; VGS(th): Min:2 Max:4 Volt; VDSS: 60V
footprint TO-220
pins: 1, 2, 3
text: D; G; S

## LED GREEN 0805
designator D?  (value not drawn)
footprint LED 0805
pins: 1, 2

## LED RED 0805
designator D?  (value not drawn)
footprint LED 0805
pins: 1, 2

## micro b usb connector
designator J?, comment 10118192-0001LF  (value not drawn)
CONN USB MICRO B RECPT SMT R/A; Manufacturer: Amphenol ICC / FCI; Supplier: Digikey; Supplier Part Number: 609-4613-1-ND; Manufacturer Part Number: 10118192-0001LF; RoHS: No; Category: Uncategorized; Stock: 76957; Pricing: 1=0,46, 10=0,404, 25=0,3696, 50=0,3478, 100=0,3334, 250=0,30436, 500=0,28988 (USD)
footprint 10118192-0001LF (10118192-0001LF Micro b usb connector smd)
pins: 1 VUSB, 2 D+, 3 D-, 4 ID, 5 GND, 6 SHLD

## slide switch
designator SW?
Slide Switch, 2 Positions, SPDT, Latched, 0.2A, 30VDC, 3 PCB Hole Cnt, Solder Terminal, Through Hole-straight EG1218; Manufacturer: E-Switch; Body Breadth: 4inch; Body Height: 5.4mm; Body Length or Diameter: 11.6mm; Supplier: Digikey; Supplier Part Number: EG1903-ND; Manufacturer Part Number: EG1218; RoHS: Yes; Category: Slide Switches; Stock: 58277; Pricing: 1=0,76, 10=0,727, 25=0,6996, 100=0,6071, 250=0,55396, 500=0,51478, 1000=0,46162, 2500=0,43364, 5000=0,40287 (USD); Mounting Technology: Through Hole; Terminal Finish: Silver; Min Operating Temperature: -20°C; Max Operating Temperature: 70°C; Switch Function: SPDT; Switch Type: Slide Switch; Termination: Solder; JESD-609 Code: e4; Switch Action: LATCHED; Reach SVHC Compliant: Yes; RoHS Compliant: Yes; ComponentLink1URL: https://datasheet.ciiva.com:443/pdfs/VipMasterIC/IC/ESCH/ESCH-S-A0005350660/ESCH-S-A0005350660-1.pdf?src-supplier=IHS+Markit; ComponentLink1Description: https://datasheet.ciiva.com:443/pdfs/VipMasterIC/IC/ESCH/ESCH-S-A0005350660/ESCH-S-A0005350660-1.pdf?src-supplier=IHS+Markit; ComponentLink2URL: https://datasheet.ciiva.com/1699/p040040c-1699451.pdf?src-supplier=Newark; ComponentLink2Description: https://datasheet.ciiva.com/1699/p040040c-1699451.pdf?src-supplier=Newark
footprint EG1218 (EG1218 slide swtitch)
pins: 1, 2, 3

## STM32F103C6T6A
designator U?  (value not drawn)
MCU 32-bit STM32F ARM Cortex M3 RISC 32KB Flash 2.5V/3.3V 48-Pin LQFP Tray; Manufacturer: STMicroelectronics; Number of Timers/Counters: 3; Max Supply Voltage: 3.6V; Interface: I2C,SPI,USART; RAM Size: 10KB; Number of I/Os: 37; Min Supply Voltage: 2V; Data Bus Width: 32b; Clock Frequency: 72MHz; Number of ADC Channels: 10; Designed by: Mert Ali Şentürk; Supplier: Digi-Key; Supplier Part Number: 497-11515-ND; Manufacturer Part Number: STM32F103C6T6A; RoHS: Yes; Category: Microcontrollers; Stock: 178; Pricing: 1=6,37, 10=5,723, 25=5,4104, 80=4,689, 250=4,44852, 500=3,99166, 1000=3,36645, 2500=3,19813 (USD); Case/Package: LQFP; Pins: 48; Weight: 0.006409oz; Min Operating Temperature: -40°C; Max Operating Temperature: 85°C; Packaging: Tray; Series: STM32F103C6; Package Quantity: 1500; Memory Format: FLASH; Memory Size: 32KB; Core Architecture: ARM; Length: 7mm; Width: 7mm; Height: 1.4mm; Lead Free: Lead Free; RoHS Compliant: Yes; ComponentLink1URL: https://datasheet.ciiva.com/15122/getdatasheetpartid-69879-15122075.pdf?src-supplier=Verical; ComponentLink1Description: https://datasheet.ciiva.com/15122/getdatasheetpartid-69879-15122075.pdf?src-supplier=Verical; ComponentLink2URL: https://datasheet.ciiva.com/14100/pustm-arm-microcont-stm32f103-en-14100507.pdf?src-supplier=Distrelec; ComponentLink2Description: https://datasheet.ciiva.com/14100/pustm-arm-microcont-stm32f103-en-14100507.pdf?src-supplier=Distrelec
footprint LQFP-48
pins: 1 VBAT, 2 PC13, 3 OSC32_IN, 4 OSC32_OUT, 5 OSC_IN, 6 OSC_OUT, 7 NRST, 8 VSSA, 9 VDDA, 10 PA0/WKP, 11 PA1, 12 PA2, 13 PA3, 14 PA4/SPI_NSS, 15 PA5/SPI_SCK, 16 PA6/SPI_MISO, 17 PA7/SPI_MOSI, 18 PB0, 19 PB1, 20 BOOT1/PB2, 21 PB10, 22 PB11, 23 VSS, 24 VDD, 25 PB12, 26 PB13, 27 PB14, 28 PB15, 29 PA8/UART_CK, 30 PA9/UART_TX, 31 PA10/UART_RX, 32 PA11/USB_N, 33 PA12/USB_P, 34 PA13, 35 VSS, 36 VDD, 37 PA14, 38 PA15, 39 PB3, 40 PB4, 41 PB5, 42 PB6/I2C_SCL, 43 PB7/I2C_SDA, 44 BOOT0, 45 PB8, 46 PB9, 47 VSS, 48 VDD

## SWITCH TACTILE
designator SW?
TL3305BF260QG Keypad Switch, 1 Switches, SPST, Momentary, 0.05A, 12VDC, 3.04N, Solder Terminal, Surface Mount-straight; Manufacturer: E-Switch; Circuit Configuration: 1X1; Contact Current(DC)-Max: 50mA; Contact DC Max Rating R Load: .05A@12VDC; Contact Voltage(DC)-Max: 12V; Electrical Life: 200000Cycles; Number of Switches: 1; Body Breadth: 4.5inch; Body Height: 4.9mm; Body Length or Diameter: 4.5mm; Supplier: Digikey; Supplier Part Number: EG5354CT-ND; Manufacturer Part Number: TL3305BF260QG; RoHS: Yes; Category: Tactile Switches; Stock: 306451; Pricing: 1=0,22, 10=0,214, 25=0,2028, 100=0,1836, 250=0,16736, 500=0,15558 (USD); Mounting Technology: Surface Mount; Min Operating Temperature: -20°C; Max Operating Temperature: 70°C; Operating Force-Max: 3.04N; Packaging: Tape and Reel; Switch Action: MOMENTARY; Switch Function: SPST; Switch Type: Keypad; Termination: Solder; Reach SVHC Compliant: Yes; RoHS Compliant: Yes; ComponentLink1URL: https://datasheet.ciiva.com:443/pdfs/VipMasterIC/IC/ESCH/ESCH-S-A0003149373/ESCH-S-A0003149373-1.pdf?src-supplier=IHS+Markit; ComponentLink1Description: https://datasheet.ciiva.com:443/pdfs/VipMasterIC/IC/ESCH/ESCH-S-A0003149373/ESCH-S-A0003149373-1.pdf?src-supplier=IHS+Markit; ComponentLink2URL: http://www.farnell.com/datasheets/2554191.pdf?src-supplier=Farnell; ComponentLink2Description: http://www.farnell.com/datasheets/2554191.pdf?src-supplier=Farnell; ComponentLink3URL: https://sten-eswitch-13110800-production.s3.amazonaws.com/system/asset/product_line/data_sheet/213/TL3305.pdf?src-supplier=Digikey; ComponentLink3Description: https://sten-eswitch-13110800-production.s3.amazonaws.com/system/asset/product_line/data_sheet/213/TL3305.pdf?src-supplier=Digikey; ComponentLink4URL: http://spec_sheets.e-switch.com/specs/P010472.pdf?src-supplier=Digikey; ComponentLink4Description: http://spec_sheets.e-switch.com/specs/P010472.pdf?src-supplier=Digikey; ComponentLink5URL: https://datasheet.octopart.com/TL3305BF260QG-E-Switch-datasheet-100437264.pdf?src-supplier=Element14; ComponentLink5Description: https://datasheet.octopart.com/TL3305BF260QG-E-Switch-datasheet-100437264.pdf?src-supplier=Element14; ComponentLink6URL: https://datasheet.octopart.com/TL3305BF260QG-E-Switch-datasheet-62330036.pdf?src-supplier=Future+Electronics; ComponentLink6Description: https://datasheet.octopart.com/TL3305BF260QG-E-Switch-datasheet-62330036.pdf?src-supplier=Future+Electronics; ComponentLink7URL: http://www.farnell.com/datasheets/2554191.pdf?src-supplier=Newark; ComponentLink7Description: http://www.farnell.com/datasheets/2554191.pdf?src-supplier=Newark
footprint 4 pin tactile switch (yatay düzlemdekiler iletimde 1ve2/3ve4)
pins: 1, 2, 3, 4

## USB Protection
designator U?, comment USBLC6-2SC6
Trans Voltage Suppressor Diode, 5V V(RWM), Unidirectional, 1 Element, Silicon; Manufacturer: STMicroelectronics; Package Body Material: Plastic; Additional Feature: HIGH RELIABILITY; Min Breakdown Voltage: 6V; Number of Elements: 1; Clamping Voltage-Max: 17V; Reference Standard: IEC-61000-4-2; Qualification Status: Not Qualified; Supplier: Digikey; Supplier Part Number: 497-5235-1-ND; Manufacturer Part Number: USBLC6-2SC6; RoHS: Yes; Category: TVS Diodes; Stock: 59063; Pricing: 1=0,58, 10=0,496, 100=0,3448, 500=0,2692, 1000=0,21881 (USD); Pins: 6; Package Shape: Rectangular; Terminal Finish: Tin; Diode Element Material: SILICON; Min Operating Temperature: -40°C; Max Operating Temperature: 125°C; JESD-609 Code: e3; Polarity: Unidirectional; Package Style: SMALL OUTLINEMeter; Diode Type: TRANS VOLTAGE SUPPRESSOR; JESD-30 Code: R-PDSO-G6; Moisture Sensitivity Level: 1; Rep Pk Reverse Voltage-Max: 5V; Surface Mount: Yes; Technology: AVALANCHE; Terminal Form: Gull Wing; Terminal Position: DUAL; Peak Reflow Temperature (Cel): 260°C; Reach SVHC Compliant: Yes; RoHS Compliant: Yes; ComponentLink1URL: https://datasheet.ciiva.com:443/pdfs/VipMasterIC/IC/SGST/SGSTS30336/SGSTS30336-1.pdf?src-supplier=IHS+Markit; ComponentLink1Description: https://datasheet.ciiva.com:443/pdfs/VipMasterIC/IC/SGST/SGSTS30336/SGSTS30336-1.pdf?src-supplier=IHS+Markit; ComponentLink2URL: https://datasheet.ciiva.com/1268/1690354-1268384.pdf?src-supplier=Element14; ComponentLink2Description: https://datasheet.ciiva.com/1268/1690354-1268384.pdf?src-supplier=Element14; ComponentLink3URL: https://datasheet.ciiva.com/4508/cd00050750-113117-4508433.pdf?src-supplier=Mouser; ComponentLink3Description: https://datasheet.ciiva.com/4508/cd00050750-113117-4508433.pdf?src-supplier=Mouser; ComponentLink4URL: https://datasheet.ciiva.com/15143/getdatasheetpartid-148465-15143789.pdf?src-supplier=Verical; ComponentLink4Description: https://datasheet.ciiva.com/15143/getdatasheetpartid-148465-15143789.pdf?src-supplier=Verical; ComponentLink5URL: https://datasheet.ciiva.com/16200/cd00050750-16200026.pdf?src-supplier=Future+Electronics; ComponentLink5Description: https://datasheet.ciiva.com/16200/cd00050750-16200026.pdf?src-supplier=Future+Electronics; ComponentLink6URL: https://datasheet.ciiva.com/41444/001184109-da-01-en-ic-esd-protecti-usblc6-2sc6-sot-23-6-stm-41444156.pdf?src-supplier=Conrad; ComponentLink6Description: https://datasheet.ciiva.com/41444/001184109-da-01-en-ic-esd-protecti-usblc6-2sc6-sot-23-6-stm-41444156.pdf?src-supplier=Conrad
footprint SOT23-6
pins: 1 I/O1 (io), 2 GND (power), 3 I/O2 (io), 4 I/O2 (io), 5 VBUS (power), 6 I/O1 (io)

## XR8M000000S416
designator X?
8 MHz ±30ppm Crystal 16pF 80 Ohms 2-SMD, No Lead; Frequency: 8M Hz; Equivalent Series Resistance: 80 ohm; Load Capacitance: 16pF; Frequency Tolerance: 30ppm; Operating Temperature: -40°C ~ 85°C
footprint XR8M000000S416 (step yazısı hariç doğru)
pins: 1, 2

## YP32K76800S702
designator X?
32.768 kHz ±20ppm Crystal 7pF 4-SMD, J-Lead; Frequency: 32.768 kHz; Load Capacitance: 7pF; Operating Temperature: -40°C ~ 85°C; Case: 4-SMD, J-Lead
footprint 4-SMD, J-Lead
pins: 1 cry1, 2 GND, 3 GND, 4 Cry2